# EAGLE library part 2X7SEG (library arduino)
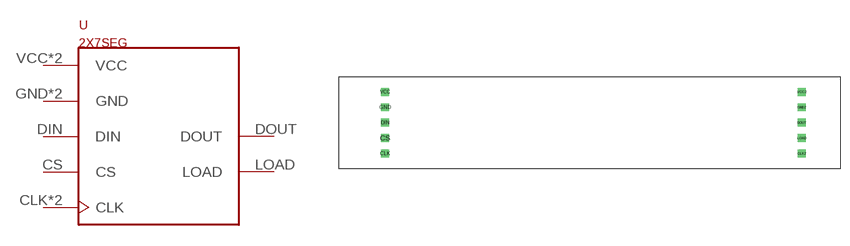
[diagram p2: symbol with the pads of 2X7SEG; footprint 2X7SEG]

Designator prefix -

## 2X7SEG  [2X7SEG]
CLK  CLK
CLK2  CLK
CS  CS  nc
DIN  DIN  in
DOUT  DOUT  out
GND  GND  nc
GND2  GND  nc
LOAD  LOAD  out
VCC  VCC  pwr
VCC2  VCC  pwr

## Footprint 2X7SEG (pad centres in mm)
drill 0.8 square: CLK -35.56,-5.08; CLK2 33.02,-5.08; CS -35.56,-2.54; DIN -35.56,0; DOUT 33.02,0; GND -35.56,2.54; GND2 33.02,2.54; LOAD 33.02,-2.54; VCC -35.56,5.08; VCC2 33.02,5.08